# Altium footprint library can_12.5_0.PcbLib: 1 footprints
Each footprint in its own frame and in the unit in brackets; x right, y up, seen from the top. Pads: shape width x height; smd on the part's side, far side on the other; paste and mask are expansions set on the pad; w line width, h text height; cw(c..) or ccw(c..) is an arc to the next point about the centre after c.
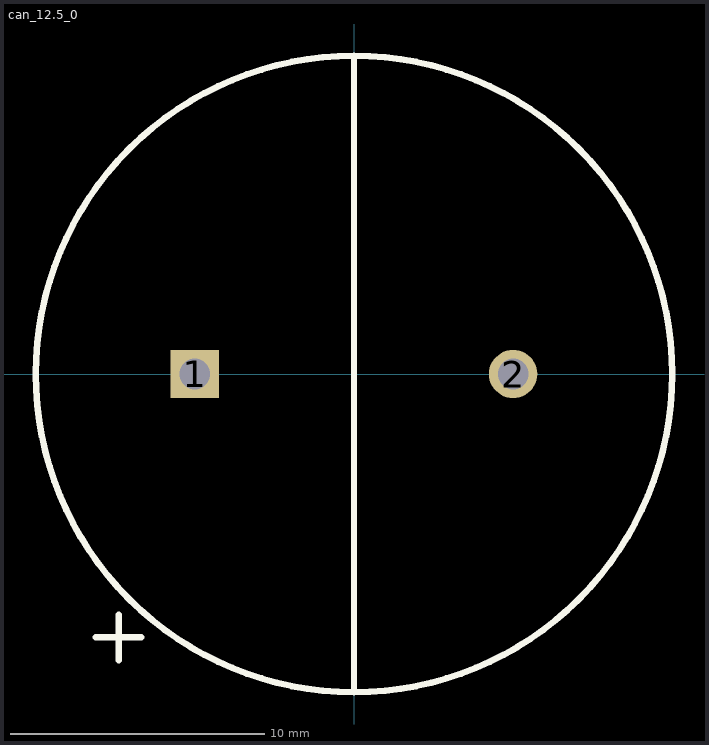
[diagram p0: the footprint, top view; thin cyan lines are the x and y axes]

## can_12.5_0 [mm] "2 Leaded Al Cap, 12.5mm spacing, 25mm diameter"
height 20
pads (2):
  rect 1.9x1.9 hole 1.2: 1(-6.25,0)
  round 1.9 hole 1.2: 2(6.25,0)
Top Overlay:
  lines w0.25: 0,-12.5 0,12.5
  lines w0.254: -10.139,-10.35 -8.361,-10.35 ; -9.25,-11.239 -9.25,-9.461 ; 0,-12.5 ccw(c0,0) 0,12.5 ccw(c0,0) 0,-12.5
3D body: height 49.99, standoff 0, extent -12.422,-12.44 12.47,12.44
3D body: height 0.25, standoff -26.8, extent -12.473,0 -12.473,0